# EAGLE library part ARDUINO_PRO_MINI (library MultiWiiArduino)
Arduino Pro Mini for MultiWii Trii or Quadcopter with NK ACC or Basic MultiWii Tri or Quadcopter
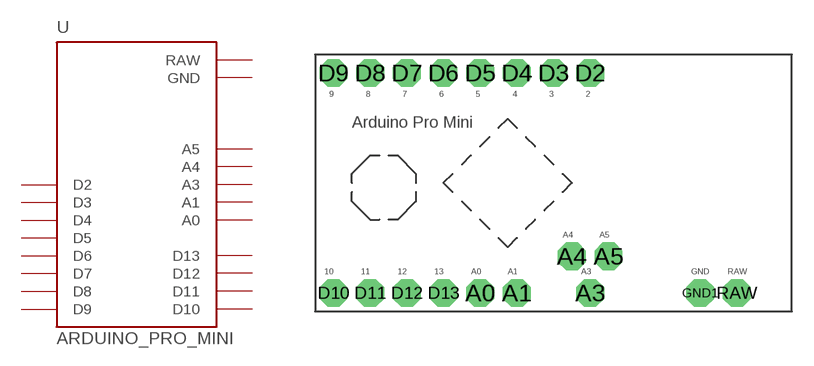
[diagram p0: symbol with the pads of ARDUINO_PRO_MINI; footprint ARDUINO_PRO_MINI]

Designator prefix -

## ARDUINO_PRO_MINI  [ARDUINO_PRO_MINI]
A0  A0
A1  A1
A3  A3
A4  A4
A5  A5
D2  D2
D3  D3
D4  D4
D5  D5
D6  D6
D7  D7
D8  D8
D9  D9
D10  D10
D11  D11
D12  D12
D13  D13
GND1  GND  pwr
RAW  RAW  pwr

## Footprint ARDUINO_PRO_MINI (pad centres in mm)
drill 1 pad 1.93 octagon: A0 -5.08,-7.62; A1 -2.54,-7.62; A3 2.54,-7.62; A4 1.27,-5.08; A5 3.81,-5.08; D2 2.54,7.62; D3 0,7.62; D4 -2.54,7.62; D5 -5.08,7.62; D6 -7.62,7.62; D7 -10.16,7.62; D8 -12.7,7.62; D9 -15.24,7.62; D10 -15.24,-7.62; D11 -12.7,-7.62; D12 -10.16,-7.62; D13 -7.62,-7.62; GND1 10.16,-7.62; RAW 12.7,-7.62